# Altium footprint library ecg_device_components.PcbLib: 22 footprints (part 2 of 2)
Each footprint in its own frame and in the unit in brackets; x right, y up, seen from the top. Pads: shape width x height; smd on the part's side, far side on the other; paste and mask are expansions set on the pad; w line width, h text height; cw(c..) or ccw(c..) is an arc to the next point about the centre after c.
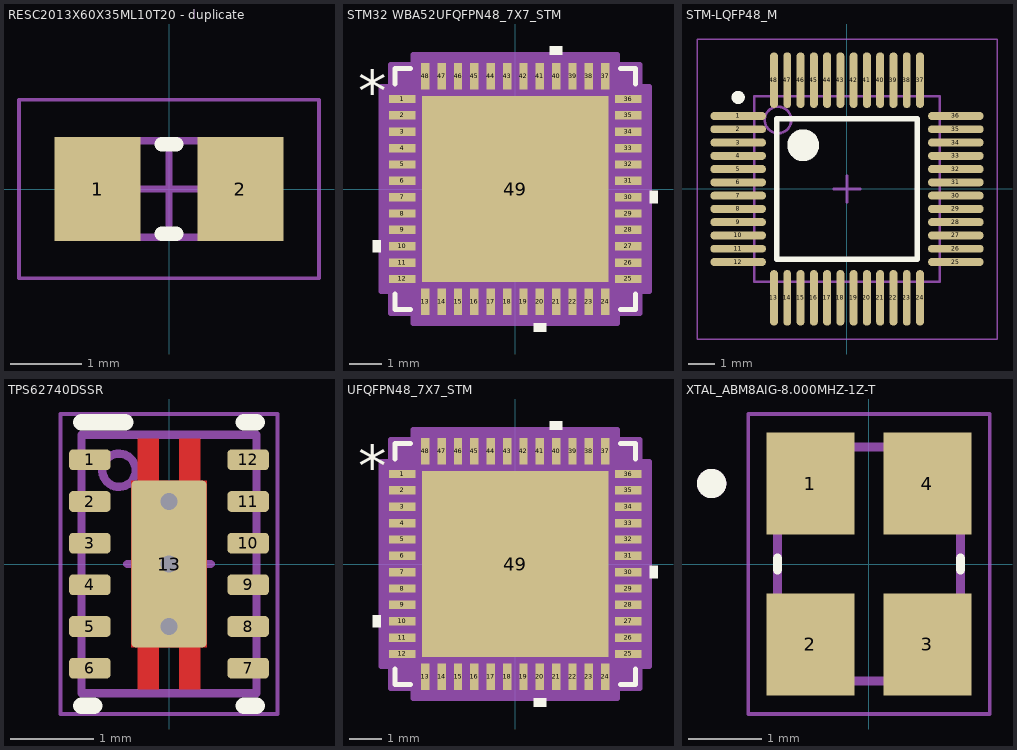
[diagram p1: the footprints below, top view; thin cyan lines are the x and y axes]

## RESC2013X60X35ML10T20 - duplicate [mm] "Chip Resistor, 2-Leads, Body 2.1x1.35mm, IPC Low Density"
height 0.6
pads (2):
  rect 1.2x1.45 smd: 1(-1,0) 2(1,0)
Top Overlay:
  lines w0.2: -0.1,-0.625 0.1,-0.625 ; -0.1,0.625 0.1,0.625
Mechanical 13:
  lines w0.1: -1.05,-0.675 1.05,-0.675 1.05,0.675 -1.05,0.675 -1.05,-0.675
Mechanical 15:
  lines w0.05: -2.1,-1.25 2.1,-1.25 2.1,1.25 -2.1,1.25 -2.1,-1.25
  lines w0.1: -0.5,0 0.5,0 ; 0,-0.5 0,0.5
3D body "RESC2012X06N.step": height 0.6, standoff 0, extent -1.05,-0.675 1.05,0.675

## STM32 WBA52UFQFPN48_7X7_STM [mm]
pads (49):
  rect 0.808x0.255 smd paste+0 mask+0: 1(-3.452,2.75) 2(-3.452,2.25) 3(-3.452,1.75) 4(-3.452,1.25) 5(-3.452,0.75) 6(-3.452,0.25) 7(-3.452,-0.25) 8(-3.452,-0.75) 9(-3.452,-1.25) 10(-3.452,-1.75) 11(-3.452,-2.25) 12(-3.452,-2.75) 25(3.452,-2.75) 26(3.452,-2.25) 27(3.452,-1.75) 28(3.452,-1.25) 29(3.452,-0.75) 30(3.452,-0.25) 31(3.452,0.25) 32(3.452,0.75) 33(3.452,1.25) 34(3.452,1.75) 35(3.452,2.25) 36(3.452,2.75)
  rect 0.255x0.808 smd paste+0 mask+0: 13(-2.75,-3.452) 14(-2.25,-3.452) 15(-1.75,-3.452) 16(-1.25,-3.452) 17(-0.75,-3.452) 18(-0.25,-3.452) 19(0.25,-3.452) 20(0.75,-3.452) 21(1.25,-3.452) 22(1.75,-3.452) 23(2.25,-3.452) 24(2.75,-3.452) 37(2.75,3.452) 38(2.25,3.452) 39(1.75,3.452) 40(1.25,3.452) 41(0.75,3.452) 42(0.25,3.452) 43(-0.25,3.452) 44(-0.75,3.452) 45(-1.25,3.452) 46(-1.75,3.452) 47(-2.25,3.452) 48(-2.75,3.452)
  rect 5.69x5.69 smd paste-2.845 mask+0: 49(0,0)
Top Overlay:
  region: -4.11,-1.559 -4.364,-1.559 -4.364,-1.94 -4.11,-1.94
  region: 0.941,-4.11 0.56,-4.11 0.56,-4.364 0.941,-4.364
  region: 4.11,-0.059 4.364,-0.059 4.364,-0.44 4.11,-0.44
  region: 1.441,4.11 1.06,4.11 1.06,4.364 1.441,4.364
  lines w0.152: -3.683,-3.21 -3.683,-3.683 -3.21,-3.683 ; -3.683,3.21 -3.683,3.683 -3.21,3.683 ; 3.21,-3.683 3.683,-3.683 3.683,-3.21 ; 3.21,3.683 3.683,3.683 3.683,3.21
  text "*" at -4.808,2.365 h1.27
  text ".Designator" at -3.492,-0.635 h1.27
Top Paste:
  region: -1.522,2.745 -2.745,2.745 -2.745,1.522 -1.522,1.522
  region: -1.522,1.322 -2.745,1.322 -2.745,0.1 -1.522,0.1
  region: -1.522,-0.1 -2.745,-0.1 -2.745,-1.322 -1.522,-1.322
  region: -1.522,-1.522 -2.745,-1.522 -2.745,-2.745 -1.522,-2.745
  region: -0.1,2.745 -1.322,2.745 -1.322,1.522 -0.1,1.522
  region: -0.1,1.322 -1.322,1.322 -1.322,0.1 -0.1,0.1
  region: -0.1,-0.1 -1.322,-0.1 -1.322,-1.322 -0.1,-1.322
  region: -0.1,-1.522 -1.322,-1.522 -1.322,-2.745 -0.1,-2.745
  region: 1.322,2.745 0.1,2.745 0.1,1.522 1.322,1.522
  region: 1.322,1.322 0.1,1.322 0.1,0.1 1.322,0.1
  region: 1.322,-0.1 0.1,-0.1 0.1,-1.322 1.322,-1.322
  region: 1.322,-1.522 0.1,-1.522 0.1,-2.745 1.322,-2.745
  region: 2.745,2.745 1.522,2.745 1.522,1.522 2.745,1.522
  region: 2.745,1.322 1.522,1.322 1.522,0.1 2.745,0.1
  region: 2.745,-0.1 1.522,-0.1 1.522,-1.322 2.745,-1.322
  region: 2.745,-1.522 1.522,-1.522 1.522,-2.745 2.745,-2.745
Mechanical 13:
  lines w0.025: -3.556,2.286 -2.286,3.556 ; -3.556,-3.556 3.556,-3.556 3.556,3.556 -3.556,3.556 -3.556,-3.556 ; -3.556,-2.902 -3.556,-2.598 -3.556,-2.902 ; -3.556,-2.402 -3.556,-2.098 -3.556,-2.402 ; -3.556,-1.902 -3.556,-1.598 -3.556,-1.902 ; -3.556,-1.402 -3.556,-1.098 -3.556,-1.402 ; -3.556,-0.902 -3.556,-0.598 -3.556,-0.902 ; -3.556,-0.402 -3.556,-0.098 -3.556,-0.402 ; -3.556,0.098 -3.556,0.402 -3.556,0.098 ; -3.556,0.598 -3.556,0.902 -3.556,0.598 ; -3.556,1.098 -3.556,1.402 -3.556,1.098 ; -3.556,1.598 -3.556,1.902 -3.556,1.598 ; -3.556,2.098 -3.556,2.402 -3.556,2.098 ; -3.556,2.598 -3.556,2.902 -3.556,2.598 ; -2.902,-3.556 -2.598,-3.556 -2.902,-3.556 ; -2.902,3.556 -2.598,3.556 -2.902,3.556 ; -2.402,-3.556 -2.098,-3.556 -2.402,-3.556 ; -2.402,3.556 -2.098,3.556 -2.402,3.556 ; -1.902,-3.556 -1.598,-3.556 -1.902,-3.556 ; -1.902,3.556 -1.598,3.556 -1.902,3.556 ; -1.402,-3.556 -1.098,-3.556 -1.402,-3.556 ; -1.402,3.556 -1.098,3.556 -1.402,3.556 ; -0.902,-3.556 -0.598,-3.556 -0.902,-3.556 ; -0.902,3.556 -0.598,3.556 -0.902,3.556 ; -0.402,-3.556 -0.098,-3.556 -0.402,-3.556 ; -0.402,3.556 -0.098,3.556 -0.402,3.556 ; 0.098,-3.556 0.402,-3.556 0.098,-3.556 ; 0.098,3.556 0.402,3.556 0.098,3.556 ; 0.598,-3.556 0.902,-3.556 0.598,-3.556 ; 0.598,3.556 0.902,3.556 0.598,3.556 ; 1.098,-3.556 1.402,-3.556 1.098,-3.556 ; 1.098,3.556 1.402,3.556 1.098,3.556 ; 1.598,-3.556 1.902,-3.556 1.598,-3.556 ; 1.598,3.556 1.902,3.556 1.598,3.556 ; 2.098,-3.556 2.402,-3.556 2.098,-3.556 ; 2.098,3.556 2.402,3.556 2.098,3.556 ; 2.598,-3.556 2.902,-3.556 2.598,-3.556 ; 2.598,3.556 2.902,3.556 2.598,3.556 ; 3.556,-2.902 3.556,-2.598 3.556,-2.902 ; 3.556,-2.402 3.556,-2.098 3.556,-2.402 ; 3.556,-1.902 3.556,-1.598 3.556,-1.902 ; 3.556,-1.402 3.556,-1.098 3.556,-1.402 ; 3.556,-0.902 3.556,-0.598 3.556,-0.902 ; 3.556,-0.402 3.556,-0.098 3.556,-0.402 ; 3.556,0.098 3.556,0.402 3.556,0.098 ; 3.556,0.598 3.556,0.902 3.556,0.598 ; 3.556,1.098 3.556,1.402 3.556,1.098 ; 3.556,1.598 3.556,1.902 3.556,1.598 ; 3.556,2.098 3.556,2.402 3.556,2.098 ; 3.556,2.598 3.556,2.902 3.556,2.598
  text ".Designator" at -3.492,-0.635 h1.27
  text "*" at -3.365,2.365 h1.27
Mechanical 15:
  region: -3.131,-3.81 -3.81,-3.81 -3.81,-3.131 -4.11,-3.131 -4.11,3.131 -3.81,3.131 -3.81,3.81 -3.131,3.81 -3.131,4.11 3.131,4.11 3.131,3.81 3.81,3.81 3.81,3.131 4.11,3.131 4.11,-3.131 3.81,-3.131 3.81,-3.81 3.131,-3.81 3.131,-4.11 -3.131,-4.11
  lines w0.152: -4.11,-3.131 -3.81,-3.131 -3.81,-3.81 -3.131,-3.81 -3.131,-4.11 3.131,-4.11 3.131,-3.81 3.81,-3.81 3.81,-3.131 4.11,-3.131 4.11,3.131 3.81,3.131 3.81,3.81 3.131,3.81 3.131,4.11 -3.131,4.11 -3.131,3.81 -3.81,3.81 -3.81,3.131 -4.11,3.131 -4.11,-3.131
3D body "UFQFPN48_7X7_STM.step": height 0.61, standoff 0, extent -3.556,-3.556 3.556,3.556

## STM-LQFP48_M [mm] "QFP, 48-Leads, Body 7x7mm, Pitch 0.5mm, IPC Low Density"
height 1.6
pads (48):
  oval 2.1x0.3 smd: 1(-4.1,2.75) 2(-4.1,2.25) 3(-4.1,1.75) 4(-4.1,1.25) 5(-4.1,0.75) 6(-4.1,0.25) 7(-4.1,-0.25) 8(-4.1,-0.75) 9(-4.1,-1.25) 10(-4.1,-1.75) 11(-4.1,-2.25) 12(-4.1,-2.75) 25(4.1,-2.75) 26(4.1,-2.25) 27(4.1,-1.75) 28(4.1,-1.25) 29(4.1,-0.75) 30(4.1,-0.25) 31(4.1,0.25) 32(4.1,0.75) 33(4.1,1.25) 34(4.1,1.75) 35(4.1,2.25) 36(4.1,2.75)
  oval 0.3x2.1 smd: 13(-2.75,-4.1) 14(-2.25,-4.1) 15(-1.75,-4.1) 16(-1.25,-4.1) 17(-0.75,-4.1) 18(-0.25,-4.1) 19(0.25,-4.1) 20(0.75,-4.1) 21(1.25,-4.1) 22(1.75,-4.1) 23(2.25,-4.1) 24(2.75,-4.1) 37(2.75,4.1) 38(2.25,4.1) 39(1.75,4.1) 40(1.25,4.1) 41(0.75,4.1) 42(0.25,4.1) 43(-0.25,4.1) 44(-0.75,4.1) 45(-1.25,4.1) 46(-1.75,4.1) 47(-2.25,4.1) 48(-2.75,4.1)
Top Overlay:
  circle w0.25: c-4.1,3.45 r0.125
  circle w0.6: c-1.65,1.65 r0.3
  lines w0.2: -2.65,-2.65 -2.65,2.65 2.65,2.65 2.65,-2.65 -2.65,-2.65
Mechanical 13:
  circle w0.1: c-2.6,2.6 r0.5
  lines w0.1: -3.5,-3.5 -3.5,3.5 3.5,3.5 3.5,-3.5 -3.5,-3.5
Mechanical 15:
  lines w0.05: -5.65,-5.65 -5.65,5.65 5.65,5.65 5.65,-5.65 -5.65,-5.65
  lines w0.1: -0.5,0 0.5,0 ; 0,-0.5 0,0.5
3D body: height 1.6, standoff 0.05, extent -3.5,-3.5 3.5,3.5

## TPS62740DSSR [mm] "SON, 12-Leads, Body 2x3mm, Pitch 0.5mm, Thermal Pad 2x0.9mm, TI Recommended"
height 0.8
pads (13):
  rrect40% 0.5x0.25 smd: 1(-0.95,1.25) 2(-0.95,0.75) 3(-0.95,0.25) 4(-0.95,-0.25) 5(-0.95,-0.75) 6(-0.95,-1.25) 7(0.95,-1.25) 8(0.95,-0.75) 9(0.95,-0.25) 10(0.95,0.25) 11(0.95,0.75) 12(0.95,1.25)
  rrect11% 0.9x2 smd paste-0.45: 13(0,0)
via 0,0 diameter 0.5 hole 0.2
via 0,-0.75 diameter 0.5 hole 0.2
via 0,0.75 diameter 0.5 hole 0.2
Top Layer:
  region: -0.375,-1.5 -0.375,-1 -0.45,-1 -0.45,1 -0.375,1 -0.375,1.5 -0.125,1.5 -0.125,1 0.125,1 0.125,1.5 0.375,1.5 0.375,1 0.45,1 0.45,-1 0.375,-1 0.375,-1.5 0.125,-1.5 0.125,-1 -0.125,-1 -0.125,-1.5
Top Overlay:
  lines w0.2: -1.05,-1.7 -0.9,-1.7 ; -1.05,1.7 -0.525,1.7 ; 0.9,-1.7 1.05,-1.7 ; 0.9,1.7 1.05,1.7
Top Paste:
  rectangle: -0.427,-0.894 0.427,0.895
Mechanical 1:
  text ".Designator" at -0.889,-0.762 h0.46
Mechanical 13:
  circle w0.1: c-0.6,1.125 r0.2
  lines w0.1: -1.05,-1.55 1.05,-1.55 1.05,1.55 -1.05,1.55 -1.05,-1.55
Mechanical 15:
  lines w0.05: -1.3,-1.8 -1.3,1.8 1.3,1.8 1.3,-1.8 -1.3,-1.8
  lines w0.1: -0.5,0 0.5,0 ; 0,-0.5 0,0.5
3D body "DSS0012A.stp": height 0.8, standoff 0, extent -1,-1.5 1,1.5

## UFQFPN48_7X7_STM [mm]
pads (49):
  rect 0.808x0.255 smd paste+0 mask+0: 1(-3.452,2.75) 2(-3.452,2.25) 3(-3.452,1.75) 4(-3.452,1.25) 5(-3.452,0.75) 6(-3.452,0.25) 7(-3.452,-0.25) 8(-3.452,-0.75) 9(-3.452,-1.25) 10(-3.452,-1.75) 11(-3.452,-2.25) 12(-3.452,-2.75) 25(3.452,-2.75) 26(3.452,-2.25) 27(3.452,-1.75) 28(3.452,-1.25) 29(3.452,-0.75) 30(3.452,-0.25) 31(3.452,0.25) 32(3.452,0.75) 33(3.452,1.25) 34(3.452,1.75) 35(3.452,2.25) 36(3.452,2.75)
  rect 0.255x0.808 smd paste+0 mask+0: 13(-2.75,-3.452) 14(-2.25,-3.452) 15(-1.75,-3.452) 16(-1.25,-3.452) 17(-0.75,-3.452) 18(-0.25,-3.452) 19(0.25,-3.452) 20(0.75,-3.452) 21(1.25,-3.452) 22(1.75,-3.452) 23(2.25,-3.452) 24(2.75,-3.452) 37(2.75,3.452) 38(2.25,3.452) 39(1.75,3.452) 40(1.25,3.452) 41(0.75,3.452) 42(0.25,3.452) 43(-0.25,3.452) 44(-0.75,3.452) 45(-1.25,3.452) 46(-1.75,3.452) 47(-2.25,3.452) 48(-2.75,3.452)
  rect 5.69x5.69 smd paste-2.845 mask+0: 49(0,0)
Top Overlay:
  region: 1.441,4.11 1.06,4.11 1.06,4.364 1.441,4.364
  region: 4.11,-0.059 4.364,-0.059 4.364,-0.44 4.11,-0.44
  region: 0.941,-4.11 0.56,-4.11 0.56,-4.364 0.941,-4.364
  region: -4.11,-1.559 -4.364,-1.559 -4.364,-1.94 -4.11,-1.94
  lines w0.152: -3.683,-3.21 -3.683,-3.683 -3.21,-3.683 ; -3.683,3.21 -3.683,3.683 -3.21,3.683 ; 3.21,-3.683 3.683,-3.683 3.683,-3.21 ; 3.21,3.683 3.683,3.683 3.683,3.21
  text ".Designator" at -3.492,-0.635 h1.27
  text "*" at -4.808,2.365 h1.27
Top Paste:
  region: 2.745,-1.522 1.522,-1.522 1.522,-2.745 2.745,-2.745
  region: 2.745,-0.1 1.522,-0.1 1.522,-1.322 2.745,-1.322
  region: 2.745,1.322 1.522,1.322 1.522,0.1 2.745,0.1
  region: 2.745,2.745 1.522,2.745 1.522,1.522 2.745,1.522
  region: 1.322,-1.522 0.1,-1.522 0.1,-2.745 1.322,-2.745
  region: 1.322,-0.1 0.1,-0.1 0.1,-1.322 1.322,-1.322
  region: 1.322,1.322 0.1,1.322 0.1,0.1 1.322,0.1
  region: 1.322,2.745 0.1,2.745 0.1,1.522 1.322,1.522
  region: -0.1,-1.522 -1.322,-1.522 -1.322,-2.745 -0.1,-2.745
  region: -0.1,-0.1 -1.322,-0.1 -1.322,-1.322 -0.1,-1.322
  region: -0.1,1.322 -1.322,1.322 -1.322,0.1 -0.1,0.1
  region: -0.1,2.745 -1.322,2.745 -1.322,1.522 -0.1,1.522
  region: -1.522,-1.522 -2.745,-1.522 -2.745,-2.745 -1.522,-2.745
  region: -1.522,-0.1 -2.745,-0.1 -2.745,-1.322 -1.522,-1.322
  region: -1.522,1.322 -2.745,1.322 -2.745,0.1 -1.522,0.1
  region: -1.522,2.745 -2.745,2.745 -2.745,1.522 -1.522,1.522
Mechanical 13:
  lines w0.025: -3.556,2.286 -2.286,3.556 ; -3.556,-3.556 -3.556,3.556 3.556,3.556 3.556,-3.556 -3.556,-3.556 ; -3.556,-2.902 -3.556,-2.598 -3.556,-2.902 ; -3.556,-2.402 -3.556,-2.098 -3.556,-2.402 ; -3.556,-1.902 -3.556,-1.598 -3.556,-1.902 ; -3.556,-1.402 -3.556,-1.098 -3.556,-1.402 ; -3.556,-0.902 -3.556,-0.598 -3.556,-0.902 ; -3.556,-0.402 -3.556,-0.098 -3.556,-0.402 ; -3.556,0.098 -3.556,0.402 -3.556,0.098 ; -3.556,0.598 -3.556,0.902 -3.556,0.598 ; -3.556,1.098 -3.556,1.402 -3.556,1.098 ; -3.556,1.598 -3.556,1.902 -3.556,1.598 ; -3.556,2.098 -3.556,2.402 -3.556,2.098 ; -3.556,2.598 -3.556,2.902 -3.556,2.598 ; -2.902,-3.556 -2.598,-3.556 -2.902,-3.556 ; -2.902,3.556 -2.598,3.556 -2.902,3.556 ; -2.402,-3.556 -2.098,-3.556 -2.402,-3.556 ; -2.402,3.556 -2.098,3.556 -2.402,3.556 ; -1.902,-3.556 -1.598,-3.556 -1.902,-3.556 ; -1.902,3.556 -1.598,3.556 -1.902,3.556 ; -1.402,-3.556 -1.098,-3.556 -1.402,-3.556 ; -1.402,3.556 -1.098,3.556 -1.402,3.556 ; -0.902,-3.556 -0.598,-3.556 -0.902,-3.556 ; -0.902,3.556 -0.598,3.556 -0.902,3.556 ; -0.402,-3.556 -0.098,-3.556 -0.402,-3.556 ; -0.402,3.556 -0.098,3.556 -0.402,3.556 ; 0.098,-3.556 0.402,-3.556 0.098,-3.556 ; 0.098,3.556 0.402,3.556 0.098,3.556 ; 0.598,-3.556 0.902,-3.556 0.598,-3.556 ; 0.598,3.556 0.902,3.556 0.598,3.556 ; 1.098,-3.556 1.402,-3.556 1.098,-3.556 ; 1.098,3.556 1.402,3.556 1.098,3.556 ; 1.598,-3.556 1.902,-3.556 1.598,-3.556 ; 1.598,3.556 1.902,3.556 1.598,3.556 ; 2.098,-3.556 2.402,-3.556 2.098,-3.556 ; 2.098,3.556 2.402,3.556 2.098,3.556 ; 2.598,-3.556 2.902,-3.556 2.598,-3.556 ; 2.598,3.556 2.902,3.556 2.598,3.556 ; 3.556,-2.902 3.556,-2.598 3.556,-2.902 ; 3.556,-2.402 3.556,-2.098 3.556,-2.402 ; 3.556,-1.902 3.556,-1.598 3.556,-1.902 ; 3.556,-1.402 3.556,-1.098 3.556,-1.402 ; 3.556,-0.902 3.556,-0.598 3.556,-0.902 ; 3.556,-0.402 3.556,-0.098 3.556,-0.402 ; 3.556,0.098 3.556,0.402 3.556,0.098 ; 3.556,0.598 3.556,0.902 3.556,0.598 ; 3.556,1.098 3.556,1.402 3.556,1.098 ; 3.556,1.598 3.556,1.902 3.556,1.598 ; 3.556,2.098 3.556,2.402 3.556,2.098 ; 3.556,2.598 3.556,2.902 3.556,2.598
  text "*" at -3.365,2.365 h1.27
  text ".Designator" at -3.492,-0.635 h1.27
Mechanical 15:
  region: -3.131,-3.81 -3.81,-3.81 -3.81,-3.131 -4.11,-3.131 -4.11,3.131 -3.81,3.131 -3.81,3.81 -3.131,3.81 -3.131,4.11 3.131,4.11 3.131,3.81 3.81,3.81 3.81,3.131 4.11,3.131 4.11,-3.131 3.81,-3.131 3.81,-3.81 3.131,-3.81 3.131,-4.11 -3.131,-4.11
  lines w0.152: -4.11,-3.131 -4.11,3.131 -3.81,3.131 -3.81,3.81 -3.131,3.81 -3.131,4.11 3.131,4.11 3.131,3.81 3.81,3.81 3.81,3.131 4.11,3.131 4.11,-3.131 3.81,-3.131 3.81,-3.81 3.131,-3.81 3.131,-4.11 -3.131,-4.11 -3.131,-3.81 -3.81,-3.81 -3.81,-3.131 -4.11,-3.131
3D body "UFQFPN48_7X7_STM.step": height 0.61, standoff 0, extent -3.556,-3.556 3.556,3.556

## XTAL_ABM8AIG-8.000MHZ-1Z-T [mm]
height 0.8
pads (4):
  rect 1.2x1.4 smd: 1(-0.8,1.1) 2(-0.8,-1.1) 3(0.8,-1.1) 4(0.8,1.1)
Top Overlay:
  circle w0.2: c-2.15,1.1 r0.1
  lines w0.127: -1.25,-0.08 -1.25,0.08 ; 1.25,-0.08 1.25,0.08
Mechanical 13:
  circle w0.2: c-2.15,1.1 r0.1
  lines w0.127: -1.25,-1.6 -1.25,1.6 1.25,1.6 1.25,-1.6 -1.25,-1.6
Mechanical 15:
  lines w0.05: -1.65,-2.05 -1.65,2.05 1.65,2.05 1.65,-2.05 -1.65,-2.05
3D body "step_temp.STEP": height 0.8, standoff 0, extent -1.25,-1.6 1.25,1.6